# Altium schematic symbol library SCH - POWER - SWITCHMODE - TI TPS56C230RJE.SchLib: 1 symbol
Pins are listed as number, name and electrical type; pins without a type are passive.

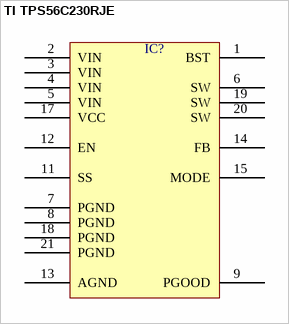
[diagram p0: symbol TI TPS56C230RJE]

## TI TPS56C230RJE
designator IC?  (value not drawn)
pins: 1 BST, 2 VIN, 3 VIN, 4 VIN, 5 VIN, 6 SW, 7 PGND, 8 PGND, 9 PGOOD, 11 SS, 12 EN, 13 AGND, 14 FB, 15 MODE, 17 VCC, 18 PGND, 19 SW, 20 SW, 21 PGND